# EAGLE library part NRF24L01+ (library randomdata)
.1" header, two rows of four.
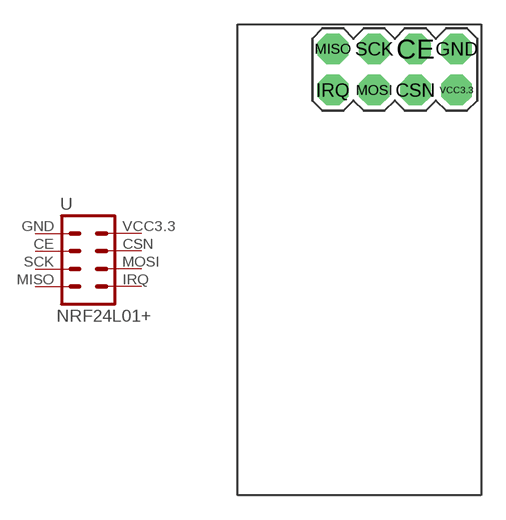
[diagram p0: symbol with the pads of 2X4; footprint 2X4]

Designator prefix -

## NRF24L01+  [2X4]
CE  CE  pas
CSN  CSN  pas
GND  GND  pas
IRQ  IRQ  pas
MISO  MISO  pas
MOSI  MOSI  pas
SCK  SCK  pas
VCC3.3  VCC  pas

## Footprint 2X4 (pad centres in mm)
drill 1.016 pad 1.88 octagon: CE 3.45,12.99; CSN 3.45,10.45; GND 5.99,12.99; IRQ -1.63,10.45; MISO -1.63,12.99; MOSI 0.91,10.45; SCK 0.91,12.99; VCC3.3 5.99,10.45